# Altium schematic symbol library custom-lib.SchLib: 1 symbol
Pins are listed as number, name and electrical type; pins without a type are passive.

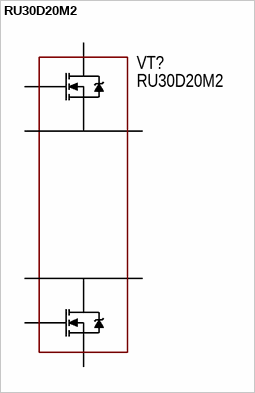
[diagram p0: symbol RU30D20M2]

## RU30D20M2
designator VT?  PartNumber: RU30D20M2
Manufacturer: Shenzhen Ruichips Semicon; ValueManufacturerPartNumber: MOSFET N-channel transistor, 30V, 20A, 13nC, 2.5W, 8.5mOhm, 930pF, 8-TDSON, -55...+150°C; TypeTransistor: MOSFET N-channel transistor; VoltageDS: 30V; CurrentDS: 20A; RDS: 8.5mOhm; GateCharge: 13nC; InputCapacitor: 930pF; MaxPower: 2.5W; Package: 8-TDSON; HelpURL: https://lcsc.com/product-detail/MOSFET_Shenzhen-ruichips-Semicon-RU30D20M2_C521557.html; Temperature: -55...+150°C
footprint 8-TDSON (pitch 1.3 mm, power pad)
pins: 1 G, 2 S, 2 S, 3 D, 4 G, 5 S, 6 D, 6 D